# Altium schematic symbol library SCH - MCU - STM32 - ST MICROELECTRONICS STM32G050F6PX TSSOP20.SchLib: 1 symbol
Pins are listed as number, name and electrical type; pins without a type are passive.

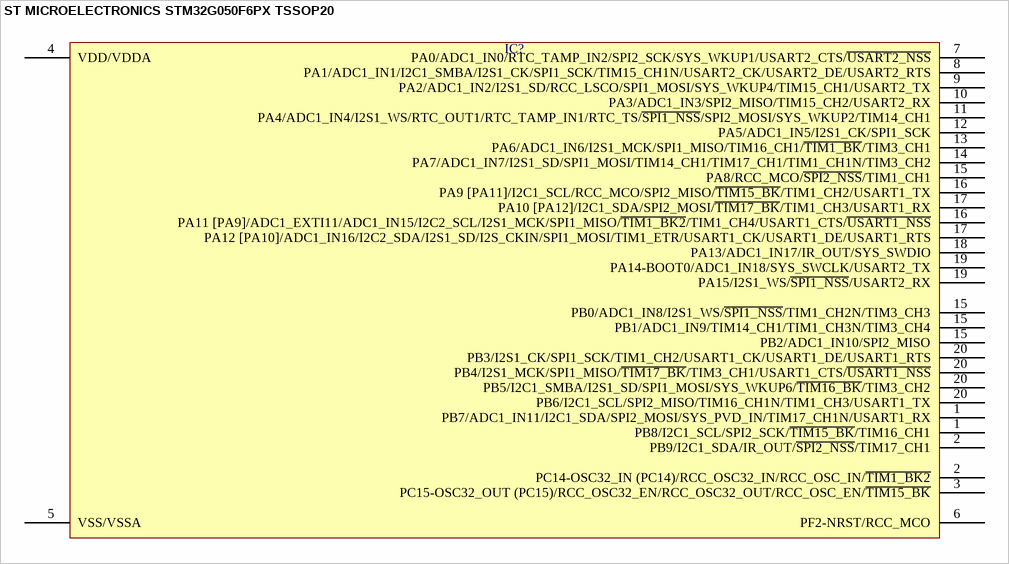
[diagram p0: symbol ST MICROELECTRONICS STM32G050F6PX TSSOP20]

## ST MICROELECTRONICS STM32G050F6PX TSSOP20
designator IC?  (value not drawn)
pins: 1 PB7/ADC1_IN11/I2C1_SDA/SPI2_MOSI/SYS_PVD_IN/TIM17_CH1N/USART1_RX, 1 PB8/I2C1_SCL/SPI2_SCK/~{TIM15_BK}/TIM16_CH1, 2 PB9/I2C1_SDA/IR_OUT/~{SPI2_NSS}/TIM17_CH1, 2 PC14-OSC32_IN (PC14)/RCC_OSC32_IN/RCC_OSC_IN/~{TIM1_BK2}, 3 PC15-OSC32_OUT (PC15)/RCC_OSC32_EN/RCC_OSC32_OUT/RCC_OSC_EN/~{TIM15_BK}, 4 VDD/VDDA, 5 VSS/VSSA, 6 PF2-NRST/RCC_MCO, 7 PA0/ADC1_IN0/RTC_TAMP_IN2/SPI2_SCK/SYS_WKUP1/USART2_CTS/~{USART2_NSS}, 8 PA1/ADC1_IN1/I2C1_SMBA/I2S1_CK/SPI1_SCK/TIM15_CH1N/USART2_CK/USART2_DE/USART2_RTS, 9 PA2/ADC1_IN2/I2S1_SD/RCC_LSCO/SPI1_MOSI/SYS_WKUP4/TIM15_CH1/USART2_TX, 10 PA3/ADC1_IN3/SPI2_MISO/TIM15_CH2/USART2_RX, 11 PA4/ADC1_IN4/I2S1_WS/RTC_OUT1/RTC_TAMP_IN1/RTC_TS/~{SPI1_NSS}/SPI2_MOSI/SYS_WKUP2/TIM14_CH1, 12 PA5/ADC1_IN5/I2S1_CK/SPI1_SCK, 13 PA6/ADC1_IN6/I2S1_MCK/SPI1_MISO/TIM16_CH1/~{TIM1_BK}/TIM3_CH1, 14 PA7/ADC1_IN7/I2S1_SD/SPI1_MOSI/TIM14_CH1/TIM17_CH1/TIM1_CH1N/TIM3_CH2, 15 PA8/RCC_MCO/~{SPI2_NSS}/TIM1_CH1, 15 PB0/ADC1_IN8/I2S1_WS/~{SPI1_NSS}/TIM1_CH2N/TIM3_CH3, 15 PB1/ADC1_IN9/TIM14_CH1/TIM1_CH3N/TIM3_CH4, 15 PB2/ADC1_IN10/SPI2_MISO, 16 PA9 [PA11]/I2C1_SCL/RCC_MCO/SPI2_MISO/~{TIM15_BK}/TIM1_CH2/USART1_TX, 16 PA11 [PA9]/ADC1_EXTI11/ADC1_IN15/I2C2_SCL/I2S1_MCK/SPI1_MISO/~{TIM1_BK2}/TIM1_CH4/USART1_CTS/~{USART1_NSS}, 17 PA10 [PA12]/I2C1_SDA/SPI2_MOSI/~{TIM17_BK}/TIM1_CH3/USART1_RX, 17 PA12 [PA10]/ADC1_IN16/I2C2_SDA/I2S1_SD/I2S_CKIN/SPI1_MOSI/TIM1_ETR/USART1_CK/USART1_DE/USART1_RTS, 18 PA13/ADC1_IN17/IR_OUT/SYS_SWDIO, 19 PA14-BOOT0/ADC1_IN18/SYS_SWCLK/USART2_TX, 19 PA15/I2S1_WS/~{SPI1_NSS}/USART2_RX, 20 PB3/I2S1_CK/SPI1_SCK/TIM1_CH2/USART1_CK/USART1_DE/USART1_RTS, 20 PB4/I2S1_MCK/SPI1_MISO/~{TIM17_BK}/TIM3_CH1/USART1_CTS/~{USART1_NSS}, 20 PB5/I2C1_SMBA/I2S1_SD/SPI1_MOSI/SYS_WKUP6/~{TIM16_BK}/TIM3_CH2, 20 PB6/I2C1_SCL/SPI2_MISO/TIM16_CH1N/TIM1_CH3/USART1_TX